# Altium footprint library SAMTEC_SSM-108-X-DV.PcbLib: 1 footprints
Each footprint in its own frame and in the unit in brackets; x right, y up, seen from the top. Pads: shape width x height; smd on the part's side, far side on the other; paste and mask are expansions set on the pad; w line width, h text height; cw(c..) or ccw(c..) is an arc to the next point about the centre after c.
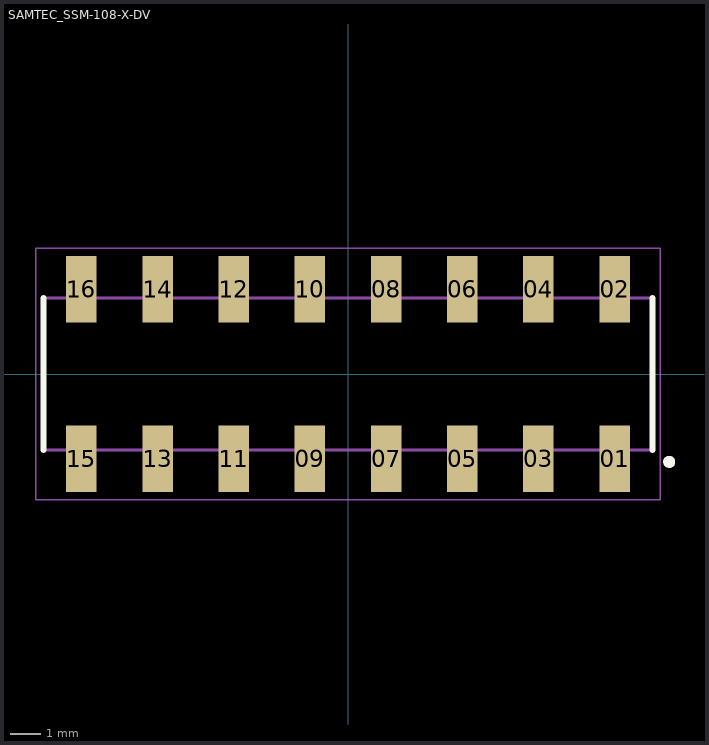
[diagram p0: the footprint, top view; thin cyan lines are the x and y axes]

## SAMTEC_SSM-108-X-DV [mm]
pads (16):
  rect 1.02x2.22 smd: 01(8.89,-2.825) 02(8.89,2.825) 03(6.35,-2.825) 04(6.35,2.825) 05(3.81,-2.825) 06(3.81,2.825) 07(1.27,-2.825) 08(1.27,2.825) 09(-1.27,-2.825) 10(-1.27,2.825) 11(-3.81,-2.825) 12(-3.81,2.825) 13(-6.35,-2.825) 14(-6.35,2.825) 15(-8.89,-2.825) 16(-8.89,2.825)
Top Overlay:
  circle w0.2: c10.71,-2.93 r0.1
  lines w0.2: -10.16,-2.54 -10.16,2.54 ; 10.16,-2.54 10.16,2.54
Mechanical 13:
  circle w0.2: c10.71,-2.93 r0.1
  lines w0.1: -10.16,-2.54 -10.16,2.54 10.16,2.54 10.16,-2.54 -10.16,-2.54
Mechanical 15:
  lines w0.05: -10.41,-4.185 -10.41,4.185 10.41,4.185 10.41,-4.185 -10.41,-4.185
3D body "SSM-108-S-DV.stp": height 3.52, standoff -3.52, extent -9.271,6.757 11.049,14.173